# Altium footprint library PCB_USB.PcbLib: 6 footprints
Each footprint in its own frame and in the unit in brackets; x right, y up, seen from the top. Pads: shape width x height; smd on the part's side, far side on the other; paste and mask are expansions set on the pad; w line width, h text height; cw(c..) or ccw(c..) is an arc to the next point about the centre after c.
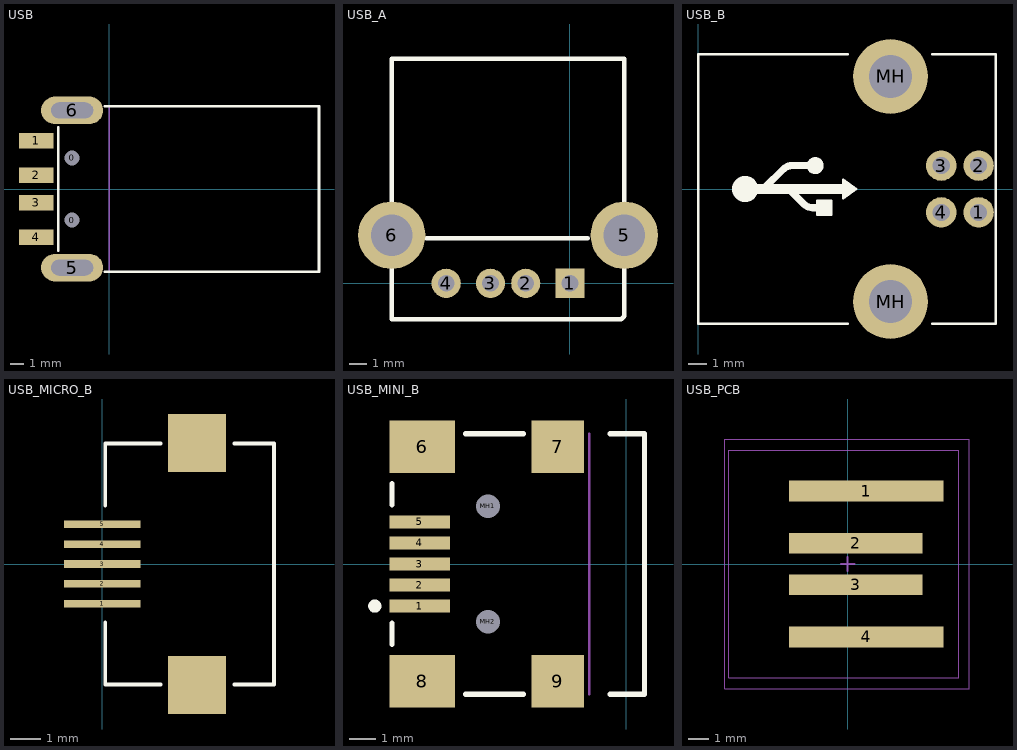
[diagram p0: the footprints below, top view; thin cyan lines are the x and y axes]

## USB [mm] "Connector; USB1.1, Type A, SM; 4 Position; Right Angle"
height 4.5
pads (8):
  round 0.8 hole 1.1: 0(-2.7,-2.25) 0(-2.7,2.25)
  rect 2.5x1.1 smd: 1(-5.3,3.5) 2(-5.3,1) 3(-5.3,-1) 4(-5.3,-3.5)
  oval 4.5x2 hole 1.143 slot 3.048 at 0 deg: 5(-2.7,-5.7) 6(-2.7,5.7)
Top Overlay:
  lines w0.2: -3.7,-4.475 -3.7,4.475 ; -0.33,-6 15.2,-6 15.2,6 -0.33,6
Mechanical 13:
  lines w0.1: 0,-6 0,6
3D body: height 3.15, standoff -2.65, extent -5.299,-6.298 15.001,6.308

## USB_A [mil]
pads (6):
  rect 65x65 hole 37: 1(0,0)
  round 65 hole 37: 2(-98.5,0) 3(-177,0) 4(-275.6,0)
  round 150 hole 93: 5(121,107) 6(-397,107)
Top Overlay:
  lines w10: -320,100 40,100 ; -397,-80 114,-80 121,-73 121,107 121,500 -397,500 -397,107 -397,-80
3D body: height 274.23, standoff -164.75, extent -449.02,-45 173.03,494.37

## USB_B [mm]
height 11.1
pads (6):
  round 1.626 hole 0.914: 1(14.99,-1.25) 2(14.99,1.25) 3(12.99,1.25) 4(12.99,-1.25)
  round 4 hole 2.3: MH(10.28,-6.02) MH(10.28,6.02)
Top Overlay:
  circle w0.889: c2.5,0 r0.254
  circle w0.508: c6.25,1.25 r0.2
  region: 8.45,0 7.75,-0.5 7.75,0.5
  region: 7.1,-1.375 6.35,-1.375 6.35,-0.625 7.1,-0.625
  lines w0.127: 8,-7.2 0,-7.2 0,7.2 8,7.2 ; 12.5,-7.2 15.9,-7.2 15.9,7.2 12.5,7.2 ; 6.35,-1.375 6.35,-0.625 7.1,-0.625 7.1,-1.375 6.35,-1.375 ; 7.75,-0.5 8.45,0 7.75,0.5 7.75,-0.5
  lines w0.381: 3.547,0.062 4.547,1.062 cw(c5,0.61) 5,1.25 6.25,1.25 ; 4.897,-0.062 5.647,-0.812 ccw(c6.1,-0.36) 6.1,-1 6.35,-1
  lines w0.508: 3,0 7.75,0
3D body: height 11.5, standoff -3.93, extent 0,-7.194 15.7,7.194

## USB_MICRO_B [mm] "Connector; USB2.0, Type A, SM; 5 Position; Right Angle"
height 3.9
pads (7):
  rect 2.5x0.25 smd: 1(0,-1.3) 2(0,-0.65) 3(0,0) 4(0,0.65) 5(0,1.3)
  rect 1.9x1.9 smd: ""(3.095,-3.95) ""(3.095,3.95)
Top Overlay:
  lines w0.127: 0.092,-3.937 1.9,-3.937 ; 0.092,-3.9 0.092,-1.905 ; 0.092,1.905 0.092,3.9 ; 0.092,3.937 1.9,3.937 ; 4.314,-3.937 5.6,-3.937 ; 4.314,3.937 5.6,3.937 ; 5.6,-3.9 5.6,3.9
3D body: height 2.71, standoff -0.23, extent 0.242,-4.003 5.672,3.977

## USB_MINI_B [mm] "Connector; USB2.0, Type A, SM; 5 Position; Right Angle"
height 3.9
pads (11):
  rect 2.3x0.5 smd: 1(-7.85,-1.6) 2(-7.85,-0.8) 3(-7.85,0) 4(-7.85,0.8) 5(-7.85,1.6)
  rect 2.5x2 smd: 6(-7.75,4.45) 8(-7.75,-4.45)
  rect 2x2 smd: 7(-2.6,4.45) 9(-2.6,-4.45)
  round 0.6 hole 0.9 unplated: MH1(-5.25,2.2) MH2(-5.25,-2.2)
Top Overlay:
  circle w0.25: c-9.55,-1.6 r0.125
  lines w0.2: -8.9,-3.05 -8.9,-2.25 ; -8.9,2.25 -8.9,3.05 ; -6.1,-4.95 -3.9,-4.95 ; -6.1,4.95 -3.9,4.95 ; -0.6,-4.95 0.7,-4.95 0.7,4.95 -0.6,4.95
Mechanical 13:
  lines w0.1: -1.4,-4.95 -1.4,4.95
3D body: height 3.95, standoff -1, extent -8.55,-5.35 0.65,5.35

## USB_PCB [mm] "Connector; USB2.0, Type A, SM; 5 Position; Right Angle"
height 3.9
pads (4):
  rect 7.41x1 smd: 1(0.897,3.5) 4(0.897,-3.5)
  rect 6.41x1 smd: 2(0.397,1) 3(0.397,-1)
Mechanical 13:
  lines w0.051: -5.908,-6 -5.908,6 5.842,6 5.842,-6 -5.908,-6 ; -5.715,-5.461 5.334,-5.461 5.334,5.461 -5.715,5.461 -5.715,-5.461
Mechanical 15:
  lines w0.1: -0.33,0 0.33,0 ; 0,-0.33 0,0.33